# Altium schematic symbol library Rectifier_diode.SchLib: 1 symbol
Pins are listed as number, name and electrical type; pins without a type are passive.

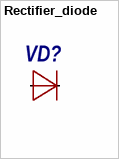
[diagram p0: symbol Rectifier_diode]

## Rectifier_diode
designator VD?
pins: 1, 2